# Altium footprint library AMPHENOL SMD.PcbLib: 3 footprints
Each footprint in its own frame and in the unit in brackets; x right, y up, seen from the top. Pads: shape width x height; smd on the part's side, far side on the other; paste and mask are expansions set on the pad; w line width, h text height; cw(c..) or ccw(c..) is an arc to the next point about the centre after c.
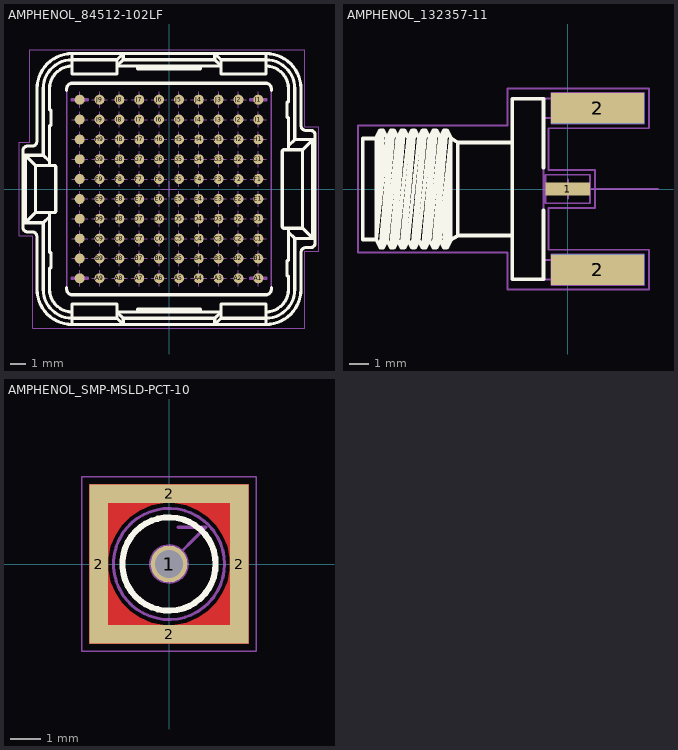
[diagram p0: the footprints below, top view; thin cyan lines are the x and y axes]

## AMPHENOL_84512-102LF [mm]
height 3.35
pads (100):
  round 0.64 smd: A1(5.715,-5.715) A2(4.445,-5.715) A3(3.175,-5.715) A4(1.905,-5.715) A5(0.635,-5.715) A6(-0.635,-5.715) A7(-1.905,-5.715) A8(-3.175,-5.715) A9(-4.445,-5.715) A10(-5.715,-5.715) B1(5.715,-4.445) B2(4.445,-4.445) B3(3.175,-4.445) B4(1.905,-4.445) B5(0.635,-4.445) B6(-0.635,-4.445) B7(-1.905,-4.445) B8(-3.175,-4.445) B9(-4.445,-4.445) B10(-5.715,-4.445) C1(5.715,-3.175) C2(4.445,-3.175) C3(3.175,-3.175) C4(1.905,-3.175) C5(0.635,-3.175) C6(-0.635,-3.175) C7(-1.905,-3.175) C8(-3.175,-3.175) C9(-4.445,-3.175) C10(-5.715,-3.175) D1(5.715,-1.905) D2(4.445,-1.905) D3(3.175,-1.905) D4(1.905,-1.905) D5(0.635,-1.905) D6(-0.635,-1.905) D7(-1.905,-1.905) D8(-3.175,-1.905) D9(-4.445,-1.905) D10(-5.715,-1.905) E1(5.715,-0.635) E2(4.445,-0.635) E3(3.175,-0.635) E4(1.905,-0.635) E5(0.635,-0.635) E6(-0.635,-0.635) E7(-1.905,-0.635) E8(-3.175,-0.635) E9(-4.445,-0.635) E10(-5.715,-0.635) F1(5.715,0.635) F2(4.445,0.635) F3(3.175,0.635) F4(1.905,0.635) F5(0.635,0.635) F6(-0.635,0.635) F7(-1.905,0.635) F8(-3.175,0.635) F9(-4.445,0.635) F10(-5.715,0.635) G1(5.715,1.905) G2(4.445,1.905) G3(3.175,1.905) G4(1.905,1.905) G5(0.635,1.905) G6(-0.635,1.905) G7(-1.905,1.905) G8(-3.175,1.905) G9(-4.445,1.905) G10(-5.715,1.905) H1(5.715,3.175) H2(4.445,3.175) H3(3.175,3.175) H4(1.905,3.175) H5(0.635,3.175) H6(-0.635,3.175) H7(-1.905,3.175) H8(-3.175,3.175) H9(-4.445,3.175) H10(-5.715,3.175) I1(5.715,4.445) I2(4.445,4.445) I3(3.175,4.445) I4(1.905,4.445) I5(0.635,4.445) I6(-0.635,4.445) I7(-1.905,4.445) I8(-3.175,4.445) I9(-4.445,4.445) I10(-5.715,4.445) J1(5.715,5.715) J2(4.445,5.715) J3(3.175,5.715) J4(1.905,5.715) J5(0.635,5.715) J6(-0.635,5.715) J7(-1.905,5.715) J8(-3.175,5.715) J9(-4.445,5.715) J10(-5.715,5.715)
Top Overlay:
  lines w0.2: -7.65,-1.763 -8.05,-2.163 ; -7.65,-1.512 -7.65,-4.06 -7.55,-4.06 -7.55,-5.06 -7.65,-5.06 -7.65,-6.42 ccw(c-6.2,-6.42) -6.2,-7.87 ; -7.65,1.512 -7.65,4.06 -7.55,4.06 -7.55,5.06 -7.65,5.06 -7.65,6.42 cw(c-6.2,6.42) -6.2,7.87 ; -7.65,1.763 -8.05,2.163 ; -6.55,-6.301 -6.55,-6.42 ccw(c-6.2,-6.42) -6.2,-6.77 6.2,-6.77 ccw(c6.2,-6.42) 6.55,-6.42 6.55,-6.301 ; -6.55,6.301 -6.55,6.42 cw(c-6.2,6.42) -6.2,6.77 6.2,6.77 cw(c6.2,6.42) 6.55,6.42 6.55,6.301 ; -2.005,-7.87 -2.005,-7.67 2.005,-7.67 2.005,-7.87 ; -2.005,7.87 -2.005,7.67 2.005,7.67 2.005,7.87 ; 6.2,-7.87 ccw(c6.2,-6.42) 7.65,-6.42 7.65,-5.565 7.55,-5.565 7.55,-4.565 7.65,-4.565 7.65,-2.512 ; 6.2,7.87 cw(c6.2,6.42) 7.65,6.42 7.65,5.565 7.55,5.565 7.55,4.565 7.65,4.565 7.65,2.512 ; 7.65,-2.762 8.05,-3.163 ; 7.65,2.762 8.05,3.163 ; -9.2,-2.163 -8.55,-1.512 ; -9.2,-2.163 -9.2,2.163 ; -9.2,-2.163 -8.05,-2.163 ; -9.2,2.163 -8.55,1.512 ; -9.2,2.163 -8.05,2.163 ; -8.55,-1.512 -7.35,-1.512 ccw(c-7.35,-1.412) -7.25,-1.412 -7.25,1.412 ccw(c-7.35,1.412) -7.35,1.512 -8.55,1.512 ; -8.55,-1.512 -8.55,1.512 ; -8.05,-2.163 -8.05,-6.42 ccw(c-6.2,-6.42) -6.2,-8.27 -3.33,-8.27 ; -8.05,2.163 -8.05,6.42 cw(c-6.2,6.42) -6.2,8.27 -3.33,8.27 ; -6.2,-8.67 cw(c-6.2,-6.42) -8.45,-6.42 -8.45,-3.05 ccw(c-8.75,-3.05) -8.75,-2.75 -9.05,-2.75 cw(c-9.05,-2.45) -9.35,-2.45 -9.35,2.45 cw(c-9.05,2.45) -9.05,2.75 -8.75,2.75 ccw(c-8.75,3.05) -8.45,3.05 -8.45,6.42 cw(c-6.2,6.42) -6.2,8.67 ; -6.2,-8.67 6.2,-8.67 ; -6.2,-8.67 -6.2,-7.37 -3.33,-7.37 -3.33,-8.27 ; -6.2,8.67 6.2,8.67 ; -6.2,8.67 -6.2,7.37 -3.33,7.37 -3.33,8.27 ; -3.33,-8.27 -2.93,-8.67 -2.93,-8.27 ; -3.33,8.27 -2.93,8.67 -2.93,8.27 ; -2.93,-8.27 -3.33,-7.87 3.33,-7.87 2.93,-8.27 ; -2.93,-8.27 2.93,-8.27 ; -2.93,8.27 -3.33,7.87 3.33,7.87 2.93,8.27 ; -2.93,8.27 2.93,8.27 ; 2.93,-8.27 2.93,-8.67 3.33,-8.27 ; 2.93,8.27 2.93,8.67 3.33,8.27 ; 3.33,-8.27 6.2,-8.27 ccw(c6.2,-6.42) 8.05,-6.42 8.05,-3.163 ; 3.33,-8.27 3.33,-7.37 6.2,-7.37 6.2,-8.67 ; 3.33,8.27 6.2,8.27 cw(c6.2,6.42) 8.05,6.42 8.05,3.163 ; 3.33,8.27 3.33,7.37 6.2,7.37 6.2,8.67 ; 6.2,-8.67 ccw(c6.2,-6.42) 8.45,-6.42 8.45,-4.05 cw(c8.75,-4.05) 8.75,-3.75 9.05,-3.75 ccw(c9.05,-3.45) 9.35,-3.45 9.35,3.45 ccw(c9.05,3.45) 9.05,3.75 8.75,3.75 cw(c8.75,4.05) 8.45,4.05 8.45,6.42 ccw(c6.2,6.42) 6.2,8.67 ; 8.05,-3.163 9.2,-3.163 ; 8.05,3.163 9.2,3.163 ; 8.55,-2.512 9.2,-3.163 ; 8.55,-2.512 7.35,-2.512 cw(c7.35,-2.412) 7.25,-2.412 7.25,2.412 cw(c7.35,2.412) 7.35,2.512 8.55,2.512 ; 8.55,-2.512 8.55,2.512 ; 8.55,2.512 9.2,3.163 ; 9.2,-3.163 9.2,3.163
Mechanical 8:
  drawing of 404 lines, arcs and shapes, not listed
Mechanical 14:
  lines w0.1: -7.65,-1.763 -8.05,-2.163 ; -7.65,-1.512 -7.65,-4.06 -7.55,-4.06 -7.55,-5.06 -7.65,-5.06 -7.65,-6.42 ccw(c-6.2,-6.42) -6.2,-7.87 ; -7.65,1.512 -7.65,4.06 -7.55,4.06 -7.55,5.06 -7.65,5.06 -7.65,6.42 cw(c-6.2,6.42) -6.2,7.87 ; -7.65,1.763 -8.05,2.163 ; -2.005,-7.87 -2.005,-7.67 2.005,-7.67 2.005,-7.87 ; -2.005,7.87 -2.005,7.67 2.005,7.67 2.005,7.87 ; 6.2,-7.87 ccw(c6.2,-6.42) 7.65,-6.42 7.65,-5.565 7.55,-5.565 7.55,-4.565 7.65,-4.565 7.65,-2.512 ; 6.2,7.87 cw(c6.2,6.42) 7.65,6.42 7.65,5.565 7.55,5.565 7.55,4.565 7.65,4.565 7.65,2.512 ; 7.65,-2.762 8.05,-3.163 ; 7.65,2.762 8.05,3.163 ; -9.2,-2.163 -8.55,-1.512 ; -9.2,-2.163 -9.2,2.163 ; -9.2,-2.163 -8.05,-2.163 ; -9.2,2.163 -8.55,1.512 ; -9.2,2.163 -8.05,2.163 ; -8.55,-1.512 -7.35,-1.512 ccw(c-7.35,-1.412) -7.25,-1.412 -7.25,1.412 ccw(c-7.35,1.412) -7.35,1.512 -8.55,1.512 ; -8.55,-1.512 -8.55,1.512 ; -8.05,-2.163 -8.05,-6.42 ccw(c-6.2,-6.42) -6.2,-8.27 -3.33,-8.27 ; -8.05,2.163 -8.05,6.42 cw(c-6.2,6.42) -6.2,8.27 -3.33,8.27 ; -6.2,-8.67 cw(c-6.2,-6.42) -8.45,-6.42 -8.45,-3.05 ccw(c-8.75,-3.05) -8.75,-2.75 -9.05,-2.75 cw(c-9.05,-2.45) -9.35,-2.45 -9.35,2.45 cw(c-9.05,2.45) -9.05,2.75 -8.75,2.75 ccw(c-8.75,3.05) -8.45,3.05 -8.45,6.42 cw(c-6.2,6.42) -6.2,8.67 ; -6.2,-8.67 6.2,-8.67 ; -6.2,-8.67 -6.2,-7.37 -3.33,-7.37 -3.33,-8.27 ; -6.2,8.67 6.2,8.67 ; -6.2,8.67 -6.2,7.37 -3.33,7.37 -3.33,8.27 ; -3.33,-8.27 -2.93,-8.67 -2.93,-8.27 ; -3.33,8.27 -2.93,8.67 -2.93,8.27 ; -2.93,-8.27 -3.33,-7.87 3.33,-7.87 2.93,-8.27 ; -2.93,-8.27 2.93,-8.27 ; -2.93,8.27 -3.33,7.87 3.33,7.87 2.93,8.27 ; -2.93,8.27 2.93,8.27 ; 2.93,-8.27 2.93,-8.67 3.33,-8.27 ; 2.93,8.27 2.93,8.67 3.33,8.27 ; 3.33,-8.27 6.2,-8.27 ccw(c6.2,-6.42) 8.05,-6.42 8.05,-3.163 ; 3.33,-8.27 3.33,-7.37 6.2,-7.37 6.2,-8.67 ; 3.33,8.27 6.2,8.27 cw(c6.2,6.42) 8.05,6.42 8.05,3.163 ; 3.33,8.27 3.33,7.37 6.2,7.37 6.2,8.67 ; 6.2,-8.67 ccw(c6.2,-6.42) 8.45,-6.42 8.45,-4.05 cw(c8.75,-4.05) 8.75,-3.75 9.05,-3.75 ccw(c9.05,-3.45) 9.35,-3.45 9.35,3.45 ccw(c9.05,3.45) 9.05,3.75 8.75,3.75 cw(c8.75,4.05) 8.45,4.05 8.45,6.42 ccw(c6.2,6.42) 6.2,8.67 ; 8.05,-3.163 9.2,-3.163 ; 8.05,3.163 9.2,3.163 ; 8.55,-2.512 9.2,-3.163 ; 8.55,-2.512 7.35,-2.512 cw(c7.35,-2.412) 7.25,-2.412 7.25,2.412 cw(c7.35,2.412) 7.35,2.512 8.55,2.512 ; 8.55,-2.512 8.55,2.512 ; 8.55,2.512 9.2,3.163 ; 9.2,-3.163 9.2,3.163 ; -6.55,-6.42 ccw(c-6.2,-6.42) -6.2,-6.77 6.2,-6.77 ccw(c6.2,-6.42) 6.55,-6.42 6.55,6.42 ccw(c6.2,6.42) 6.2,6.77 -6.2,6.77 ccw(c-6.2,6.42) -6.55,6.42 -6.55,-6.42 ; -6.27,-5.765 -6.27,-5.665 -5.16,-5.665 -5.16,-5.765 -6.27,-5.765 ; -6.27,5.665 -6.27,5.765 -5.16,5.765 -5.16,5.665 -6.27,5.665 ; 5.16,-5.765 5.16,-5.665 6.27,-5.665 6.27,-5.765 5.16,-5.765 ; 5.16,5.665 5.16,5.765 6.27,5.765 6.27,5.665 5.16,5.665
Mechanical 15:
  lines w0.05: -9.6,-3 -8.704,-3 -8.704,-8.92 8.45,-8.92 8.7,-8.92 8.7,-4 9.6,-4 9.6,4 8.7,4 8.7,8.92 -8.9,8.92 -8.9,3 -9.35,3 -9.6,3 -9.6,-2.75 -9.6,-3
3D body "AMPHENOL_84512-102LF.stp": height 3.85, standoff 0, extent -9.35,-8.67 9.35,8.67

## AMPHENOL_132357-11 [mm] "SMA End Launch Jack for 1.58mm PCB, 50 Ohm, Flat Tab Contact"
height 7.92
pads (5):
  rect 2.35x0.7 smd: 1(0,0)
  rect 4.9x1.6 smd: 2(1.575,-4.25) 2(1.575,4.25)
  rect 4.9x1.6 smd far side: 2(1.575,-4.25) 2(1.575,4.25)
Top Overlay:
  lines w0.2: -10.09,2.665 -10.805,2.665 -10.805,-2.665 -10.09,-2.665 ; -6.17,-2.665 -5.795,-2.453 ; -2.925,-2.453 -5.795,-2.453 ; -2.925,2.447 -5.795,2.447 ; -1.275,-1.137 -1.275,-4.76 -2.925,-4.76 -2.925,4.76 -1.275,4.76 -1.275,1.137 ; -10.09,-2.665 -10.09,2.715 -9.879,3.094 ; -10.09,-2.665 -9.879,-3.094 ; -10.09,-2.665 -9.53,2.715 ; -10.09,-2.665 -9.741,3.094 ; -10.09,-2.665 -9.879,3.094 ; -9.879,-3.094 -9.741,-3.094 ; -9.879,-3.094 -9.319,3.094 ; -9.879,3.094 -9.741,3.094 ; -9.741,-3.094 -9.53,-2.715 ; -9.741,-3.094 -9.181,3.094 ; -9.741,3.094 -9.53,2.715 ; -9.53,-2.715 -9.319,-3.094 ; -9.53,-2.715 -8.97,2.715 ; -9.53,2.715 -9.319,3.094 ; -9.319,-3.094 -9.181,-3.094 ; -9.319,-3.094 -8.759,3.094 ; -9.319,3.094 -9.181,3.094 ; -9.181,-3.094 -8.97,-2.715 ; -9.181,-3.094 -8.621,3.094 ; -9.181,3.094 -8.97,2.715 ; -8.97,-2.715 -8.759,-3.094 ; -8.97,-2.715 -8.41,2.715 ; -8.97,2.715 -8.759,3.094 ; -8.759,-3.094 -8.621,-3.094 ; -8.759,-3.094 -8.199,3.094 ; -8.759,3.094 -8.621,3.094 ; -8.621,-3.094 -8.41,-2.715 ; -8.621,-3.094 -8.061,3.094 ; -8.621,3.094 -8.41,2.715 ; -8.41,-2.715 -8.199,-3.094 ; -8.41,-2.715 -7.85,2.715 ; -8.41,2.715 -8.199,3.094 ; -8.199,-3.094 -8.061,-3.094 ; -8.199,-3.094 -7.639,3.094 ; -8.199,3.094 -8.061,3.094 ; -8.061,-3.094 -7.85,-2.715 ; -8.061,-3.094 -7.501,3.094 ; -8.061,3.094 -7.85,2.715 ; -7.85,-2.715 -7.639,-3.094 ; -7.85,-2.715 -7.29,2.715 ; -7.85,2.715 -7.639,3.094 ; -7.639,-3.094 -7.501,-3.094 ; -7.639,-3.094 -7.079,3.094 ; -7.639,3.094 -7.501,3.094 ; -7.501,-3.094 -7.29,-2.715 ; -7.501,-3.094 -6.941,3.094 ; -7.501,3.094 -7.29,2.715 ; -7.29,-2.715 -7.079,-3.094 ; -7.29,-2.715 -6.73,2.715 ; -7.29,2.715 -7.079,3.094 ; -7.079,-3.094 -6.941,-3.094 ; -7.079,-3.094 -6.519,3.094 ; -7.079,3.094 -6.941,3.094 ; -6.941,-3.094 -6.73,-2.715 ; -6.941,-3.094 -6.381,3.094 ; -6.941,3.094 -6.73,2.715 ; -6.73,-2.715 -6.519,-3.094 ; -6.73,-2.715 -6.17,2.713 ; -6.73,2.715 -6.519,3.094 ; -6.519,-3.094 -6.381,-3.094 ; -6.519,-3.094 -6.17,2.713 ; -6.519,3.094 -6.381,3.094 ; -6.381,-3.094 -6.17,-2.715 -6.17,2.713 ; -6.381,-3.094 -6.17,2.665 -5.795,2.447 ; -6.381,3.094 -6.17,2.713 ; -5.795,-2.453 -5.795,2.447
Mechanical 8:
  lines w0.1: -0.5,0 0,0 ; 0,-0.5 0,0 ; 0,0.5 0,0 ; 0.5,0 0,0 ; 1.075,-4.25 1.575,-4.25 ; 1.075,4.25 1.575,4.25 ; 1.575,-4.75 1.575,-4.25 ; 1.575,-3.75 1.575,-4.25 ; 1.575,3.75 1.575,4.25 ; 1.575,4.75 1.575,4.25 ; 2.075,-4.25 1.575,-4.25 ; 2.075,4.25 1.575,4.25 ; -1.175,-0.75 -1.175,0.75 1.175,0.75 1.175,-0.75 -1.175,-0.75 ; -0.875,-5.05 4.025,-5.05 4.025,-3.45 -0.875,-3.45 -0.875,-5.05 ; -0.875,3.45 4.025,3.45 4.025,5.05 -0.875,5.05 -0.875,3.45
Mechanical 14:
  lines w0.1: -10.09,2.665 -10.805,2.665 -10.805,-2.665 -10.09,-2.665 ; -6.17,-2.665 -5.795,-2.453 ; -2.925,-2.453 -5.795,-2.453 ; -2.925,2.447 -5.795,2.447 ; -1.275,-4.76 -1.275,0 ; -1.275,-3.74 3.475,-3.74 3.475,-4.76 -2.925,-4.76 -2.925,4.76 3.475,4.76 3.475,3.74 -1.275,3.74 ; -1.275,-0.251 0.635,-0.251 0.635,0.251 -1.275,0.251 ; -1.275,4.76 -1.275,0 ; 4.75,0 -1.275,0 ; -10.09,-2.665 -10.09,2.715 -9.879,3.094 ; -10.09,-2.665 -9.879,-3.094 ; -10.09,-2.665 -9.53,2.715 ; -10.09,-2.665 -9.741,3.094 ; -10.09,-2.665 -9.879,3.094 ; -9.879,-3.094 -9.741,-3.094 ; -9.879,-3.094 -9.319,3.094 ; -9.879,3.094 -9.741,3.094 ; -9.741,-3.094 -9.53,-2.715 ; -9.741,-3.094 -9.181,3.094 ; -9.741,3.094 -9.53,2.715 ; -9.53,-2.715 -9.319,-3.094 ; -9.53,-2.715 -8.97,2.715 ; -9.53,2.715 -9.319,3.094 ; -9.319,-3.094 -9.181,-3.094 ; -9.319,-3.094 -8.759,3.094 ; -9.319,3.094 -9.181,3.094 ; -9.181,-3.094 -8.97,-2.715 ; -9.181,-3.094 -8.621,3.094 ; -9.181,3.094 -8.97,2.715 ; -8.97,-2.715 -8.759,-3.094 ; -8.97,-2.715 -8.41,2.715 ; -8.97,2.715 -8.759,3.094 ; -8.759,-3.094 -8.621,-3.094 ; -8.759,-3.094 -8.199,3.094 ; -8.759,3.094 -8.621,3.094 ; -8.621,-3.094 -8.41,-2.715 ; -8.621,-3.094 -8.061,3.094 ; -8.621,3.094 -8.41,2.715 ; -8.41,-2.715 -8.199,-3.094 ; -8.41,-2.715 -7.85,2.715 ; -8.41,2.715 -8.199,3.094 ; -8.199,-3.094 -8.061,-3.094 ; -8.199,-3.094 -7.639,3.094 ; -8.199,3.094 -8.061,3.094 ; -8.061,-3.094 -7.85,-2.715 ; -8.061,-3.094 -7.501,3.094 ; -8.061,3.094 -7.85,2.715 ; -7.85,-2.715 -7.639,-3.094 ; -7.85,-2.715 -7.29,2.715 ; -7.85,2.715 -7.639,3.094 ; -7.639,-3.094 -7.501,-3.094 ; -7.639,-3.094 -7.079,3.094 ; -7.639,3.094 -7.501,3.094 ; -7.501,-3.094 -7.29,-2.715 ; -7.501,-3.094 -6.941,3.094 ; -7.501,3.094 -7.29,2.715 ; -7.29,-2.715 -7.079,-3.094 ; -7.29,-2.715 -6.73,2.715 ; -7.29,2.715 -7.079,3.094 ; -7.079,-3.094 -6.941,-3.094 ; -7.079,-3.094 -6.519,3.094 ; -7.079,3.094 -6.941,3.094 ; -6.941,-3.094 -6.73,-2.715 ; -6.941,-3.094 -6.381,3.094 ; -6.941,3.094 -6.73,2.715 ; -6.73,-2.715 -6.519,-3.094 ; -6.73,-2.715 -6.17,2.713 ; -6.73,2.715 -6.519,3.094 ; -6.519,-3.094 -6.381,-3.094 ; -6.519,-3.094 -6.17,2.713 ; -6.519,3.094 -6.381,3.094 ; -6.381,-3.094 -6.17,-2.715 -6.17,2.713 ; -6.381,-3.094 -6.17,2.665 -5.795,2.447 ; -6.381,3.094 -6.17,2.713 ; -5.795,-2.453 -5.795,2.447
Mechanical 15:
  lines w0.1: -11.055,-3.344 -3.175,-3.344 -3.175,-5.3 4.275,-5.3 4.275,-3.2 -1.025,-3.2 -1.025,-1 1.425,-1 1.425,1 -1.025,1 -1.025,3.2 4.275,3.2 4.275,5.3 -3.175,5.3 -3.175,3.344 -11.055,3.344 -11.055,-3.344
3D body "AMPHENOL_132357-11.stp": height 4.08, standoff -3.84, extent -10.805,-4.76 3.475,4.76

## AMPHENOL_SMP-MSLD-PCT-10 [mm] "50 Ohm RF Connector, SMP Straight PCB Jack, Limited Detent, Surface Mount with Thru-Hole Contact"
height 4.22
pads (6):
  round 1.2 smd: 1(0,0)
  round 1.2 hole 0.9: 1(0,0)
  rect 0.6x5.2 smd: 2(-2.3,0) 2(2.3,0)
  rect 5.2x0.6 smd: 2(0,-2.3) 2(0,2.3)
Top Layer:
  region: 0,-2.6 2.6,-2.6 2.6,2.6 0,2.6 0,2 0.196,1.99 0.581,1.914 0.943,1.764 1.269,1.546 1.546,1.269 1.764,0.943 1.914,0.581 1.99,0.196 1.99,-0.196 1.914,-0.581 1.764,-0.943 1.546,-1.269 1.269,-1.546 0.943,-1.764 0.581,-1.914 0.196,-1.99 0,-2
  region: -2.6,-2.6 0,-2.6 0,-2 -0.196,-1.99 -0.581,-1.914 -0.943,-1.764 -1.269,-1.546 -1.546,-1.269 -1.764,-0.943 -1.914,-0.581 -1.99,-0.196 -1.99,0.196 -1.914,0.581 -1.764,0.943 -1.546,1.269 -1.269,1.546 -0.943,1.764 -0.581,1.914 -0.196,1.99 0,2 0,2.6 -2.6,2.6
Top Overlay:
  circle w0.2: c0,0 r1.525
Mechanical 8:
  circle w0.1: c0,0 r0.6
  lines w0.1: 0,0.5 0,0 ; 0.3,1.2 1.2,1.2 0,0 ; 0.5,0 0,0
  text "Pin-in-Paste" at -2.7,1.9 h0.6
  text "Techno" at -2.7,1 h0.6
Mechanical 14:
  circle w0.1: c0,0 r2.095
  circle w0.1: c0,0 r1.815
  circle w0.1: c0,0 r0.19
  lines w0.1: -2.5,-2.077 ccw(c0,0) -2.077,-2.5 2.077,-2.5 ccw(c0,0) 2.5,-2.077 2.5,2.077 ccw(c0,0) 2.077,2.5 -2.077,2.5 ccw(c0,0) -2.5,2.077 -2.5,-2.077
Mechanical 15:
  lines w0.05: -2.85,-2.85 -2.85,2.85 2.85,2.85 2.85,-2.85 -2.85,-2.85
3D body "AMPHENOL_SMP-MSLD-PCT-10.stp": height 4.09, standoff -2.46, extent -2.5,-2.5 2.5,2.5